# Altium footprint library SiLPA_HE.PcbLib: 129 footprints (part 6 of 9)
Each footprint in its own frame and in the unit in brackets; x right, y up, seen from the top. Pads: shape width x height; smd on the part's side, far side on the other; paste and mask are expansions set on the pad; w line width, h text height; cw(c..) or ccw(c..) is an arc to the next point about the centre after c.
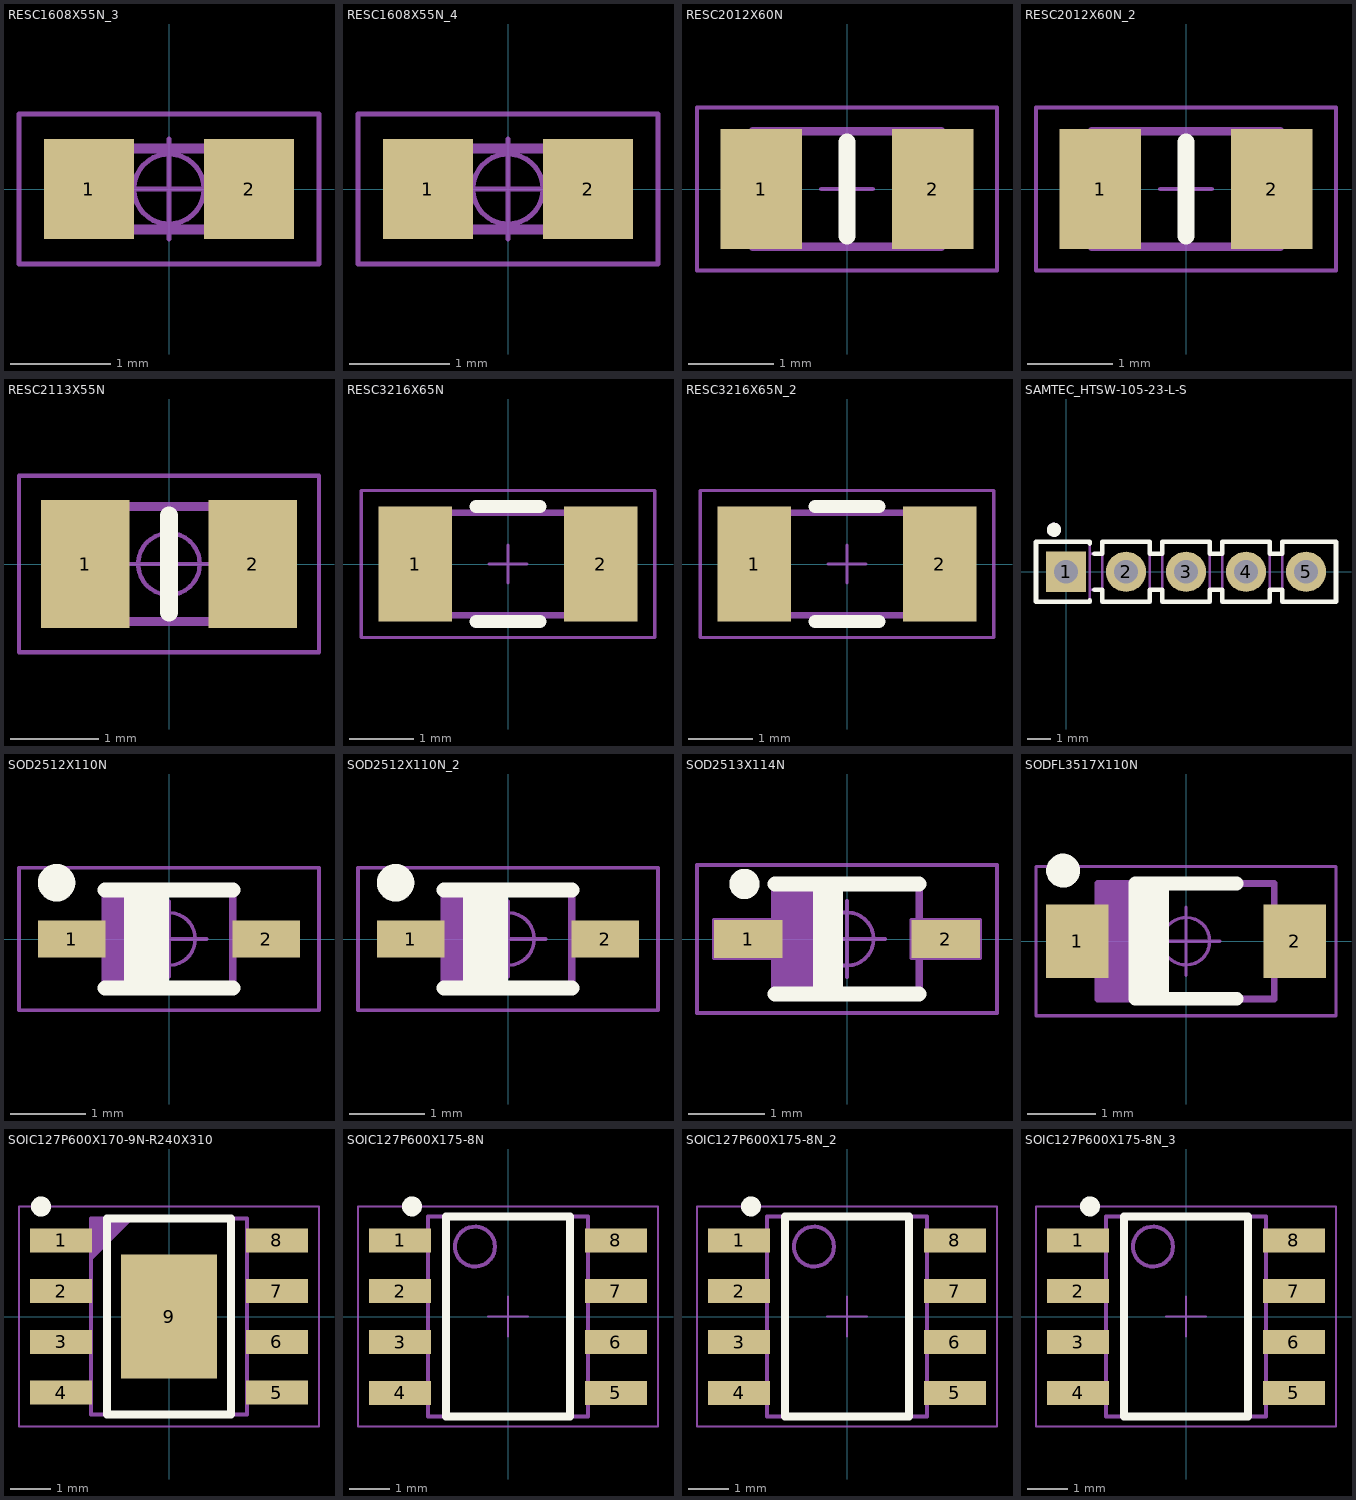
[diagram p5: the footprints below, top view; thin cyan lines are the x and y axes]

## RESC1608X55N_3 [mm]
pads (2):
  rect 0.9x1 smd: 1(-0.8,0) 2(0.8,0)
Mechanical 14:
  lines w0.1: -0.8,-0.405 0.8,-0.405 0.8,0.405 -0.8,0.405 -0.8,-0.405
Mechanical 15:
  circle w0.05: c0,0 r0.35
  lines w0.05: -0.5,0 0.5,0 ; 0,-0.5 0,0.5 ; -1.5,-0.75 -1.5,0.75 1.5,0.75 1.5,-0.75 -1.5,-0.75
3D body "RESC1608X55N.stp": height 0.55, standoff 0, extent -0.875,-0.475 0.875,0.475

## RESC1608X55N_4 [mm]
pads (2):
  rect 0.9x1 smd: 1(-0.8,0) 2(0.8,0)
Mechanical 14:
  lines w0.1: -0.8,-0.405 -0.8,0.405 0.8,0.405 0.8,-0.405 -0.8,-0.405
Mechanical 15:
  circle w0.05: c0,0 r0.35
  lines w0.05: -0.5,0 0.5,0 ; 0,-0.5 0,0.5 ; -1.5,-0.75 1.5,-0.75 1.5,0.75 -1.5,0.75 -1.5,-0.75
3D body "RESC1608X55N.stp": height 0.55, standoff 0, extent -0.875,-0.475 0.875,0.475

## RESC2012X60N [mm] "Chip Resistor, EIA 0805, Metric 2012, Body 2.0x1.2mm, IPC Medium Density"
height 0.6
pads (2):
  rect 0.95x1.4 smd: 1(-1,0) 2(1,0)
Top Overlay:
  lines w0.2: 0,-0.55 0,0.55
Mechanical 14:
  lines w0.1: -1.1,0.675 -1.1,-0.675 1.1,-0.675 1.1,0.675 ; -1.1,0.675 1.1,0.675
Mechanical 15:
  lines w0.05: -0.3,0 0.3,0 ; 0,-0.3 0,0.3 ; -1.75,-0.95 1.75,-0.95 1.75,0.95 -1.75,0.95 -1.75,-0.95
3D body "RESC2012X60N.stp": height 0.6, standoff 0, extent -1.1,-0.675 1.1,0.675

## RESC2012X60N_2 [mm]
pads (2):
  rect 0.95x1.4 smd: 1(-1,0) 2(1,0)
Top Overlay:
  lines w0.2: 0,-0.55 0,0.55
Mechanical 14:
  lines w0.1: -1.1,0.675 -1.1,-0.675 1.1,-0.675 1.1,0.675 ; -1.1,0.675 1.1,0.675
Mechanical 15:
  lines w0.05: -0.3,0 0.3,0 ; 0,-0.3 0,0.3 ; -1.75,-0.95 1.75,-0.95 1.75,0.95 -1.75,0.95 -1.75,-0.95
3D body "RESC2012X60N.stp": height 0.6, standoff 0, extent -1.1,-0.675 1.1,0.675

## RESC2113X55N [mm] "Chip Resistor, EIA 0805, Metric 2113, Body 2.05x1.3mm, IPC Medium Density"
height 0.55
pads (2):
  rect 1x1.45 smd: 1(-0.95,0) 2(0.95,0)
Top Overlay:
  lines w0.2: 0,-0.55 0,0.55
Mechanical 14:
  lines w0.1: -1.025,-0.65 -1.025,0.65 1.025,0.65 1.025,-0.65 -1.025,-0.65
Mechanical 15:
  circle w0.05: c0,0 r0.35
  lines w0.05: -0.5,0 0.5,0 ; 0,-0.5 0,0.5 ; -1.7,-1 -1.7,1 1.7,1 1.7,-1 -1.7,-1
3D body "RESC2113X55N.stp": height 0.55, standoff 0, extent -1,-0.625 1,0.625

## RESC3216X65N [mm] "Chip Resistor, EIA 1206, Metric 3216, Body 3.2x1.6mm, IPC Medium Density"
height 0.65
pads (2):
  rect 1.15x1.8 smd: 1(-1.45,0) 2(1.45,0)
Top Overlay:
  lines w0.2: -0.5,-0.9 0.5,-0.9 ; -0.5,0.9 0.5,0.9
Mechanical 14:
  lines w0.1: -1.6,-0.8 1.6,-0.8 1.6,0.8 -1.6,0.8 -1.6,-0.8
Mechanical 15:
  lines w0.05: -0.3,0 0.3,0 ; 0,-0.3 0,0.3 ; -2.3,-1.15 2.3,-1.15 2.3,1.15 -2.3,1.15 -2.3,-1.15
3D body "RESC3216X65N.stp": height 0.65, standoff 0, extent -1.675,-0.875 1.675,0.875

## RESC3216X65N_2 [mm]
pads (2):
  rect 1.15x1.8 smd: 1(-1.45,0) 2(1.45,0)
Top Overlay:
  lines w0.2: -0.5,-0.9 0.5,-0.9 ; -0.5,0.9 0.5,0.9
Mechanical 14:
  lines w0.1: -1.6,-0.8 1.6,-0.8 1.6,0.8 -1.6,0.8 -1.6,-0.8
Mechanical 15:
  lines w0.05: -0.3,0 0.3,0 ; 0,-0.3 0,0.3 ; -2.3,-1.15 2.3,-1.15 2.3,1.15 -2.3,1.15 -2.3,-1.15
3D body "RESC3216X65N.stp": height 0.65, standoff 0, extent -1.675,-0.875 1.675,0.875

## SAMTEC_HTSW-105-23-L-S [mm] "5 Contacts - Pitch 2.54mm - Single Row  Through Mount Straigh Header (Post Lead 5.84mm, Tail Lead 2.92mm, Insulator 2.54mm)"
height 8.38
pads (5):
  rect 1.7x1.7 hole 1: 1(0,0)
  round 1.7 hole 1: 2(2.54,0) 3(5.08,0) 4(7.62,0) 5(10.16,0)
Top Overlay:
  circle w0.3: c-0.508,1.778 r0.15
  lines w0.2: 1.007,-1.2 1.007,-1.27 ; 1.007,1.2 1.007,1.27 ; 1.2,-0.762 1.533,-0.762 1.533,-1.27 3.547,-1.27 3.547,-0.762 4.073,-0.762 4.073,-1.27 6.087,-1.27 6.087,-0.762 6.613,-0.762 6.613,-1.27 8.627,-1.27 8.627,-0.762 ; 1.2,0.762 1.533,0.762 1.533,1.27 3.547,1.27 3.547,0.762 4.073,0.762 4.073,1.27 6.087,1.27 6.087,0.762 6.613,0.762 6.613,1.27 8.627,1.27 8.627,0.762 ; -1.27,-1.27 1.007,-1.27 ; -1.27,-1.27 -1.27,1.27 ; -1.27,-1.27 -1.27,1.27 ; -1.27,-1.27 1.007,-1.27 ; -1.27,1.27 1.007,1.27 ; -1.27,1.27 1.007,1.27 ; 8.627,-0.762 9.153,-0.762 ; 8.627,-0.762 9.153,-0.762 ; 8.627,0.762 9.153,0.762 ; 8.627,0.762 9.153,0.762 ; 9.153,-0.762 9.153,-1.27 11.43,-1.27 11.43,1.27 9.153,1.27 9.153,0.762
Mechanical 8:
  lines w0.1: -0.5,0 0,0 ; 0,-0.5 0,0 ; 0,0.5 0,0 ; 0.5,0 0,0 ; 2.04,0 2.54,0 ; 2.54,-0.5 2.54,0 ; 2.54,0.5 2.54,0 ; 3.04,0 2.54,0 ; 4.58,0 5.08,0 ; 5.08,-0.5 5.08,0 ; 5.08,0.5 5.08,0 ; 5.58,0 5.08,0 ; 7.12,0 7.62,0 ; 7.62,-0.5 7.62,0 ; 7.62,0.5 7.62,0 ; 8.12,0 7.62,0 ; 9.66,0 10.16,0 ; 10.16,-0.5 10.16,0 ; 10.16,0.5 10.16,0 ; 10.66,0 10.16,0
Mechanical 14:
  circle w0.3: c-0.508,1.778 r0.15
  lines w0.1: 1.007,-0.762 1.533,-0.762 ; 1.007,0.762 1.533,0.762 ; 3.547,-0.762 4.073,-0.762 ; 3.547,0.762 4.073,0.762 ; 6.087,-0.762 6.613,-0.762 ; 6.087,0.762 6.613,0.762 ; -1.27,-1.27 -1.27,1.27 1.007,1.27 1.007,-1.27 -1.27,-1.27 ; -0.317,-0.318 -0.318,0.317 0.317,0.317 0.318,-0.317 -0.317,-0.318 ; 1.533,-1.27 3.547,-1.27 3.547,1.27 1.533,1.27 1.533,-1.27 ; 2.223,-0.318 2.222,0.317 2.857,0.317 2.857,-0.317 2.223,-0.318 ; 4.073,-1.27 4.073,1.27 6.087,1.27 6.087,-1.27 4.073,-1.27 ; 4.763,-0.318 4.763,0.317 5.397,0.317 5.397,-0.317 4.763,-0.318 ; 6.613,-1.27 6.613,1.27 8.627,1.27 8.627,-1.27 6.613,-1.27 ; 7.303,-0.318 7.302,0.317 7.937,0.317 7.938,-0.317 7.303,-0.318 ; 8.627,-0.762 9.153,-0.762 8.627,-0.762 ; 8.627,0.762 9.153,0.762 8.627,0.762 ; 9.153,-1.27 9.153,1.27 11.43,1.27 11.43,-1.27 9.153,-1.27 ; 9.843,-0.318 9.843,0.317 10.478,0.317 10.478,-0.318 9.843,-0.318
3D body "SAMTEC_HTSW-105-23-L-S.stp": height 8.38, standoff -2.92, extent -1.27,-1.27 11.43,1.27

## SOD2512X110N [mm]
height 8.8
pads (2):
  rect 0.9x0.5 smd: 1(-1.3,0) 2(1.3,0)
Top Overlay:
  circle w0.25: c-1.5,0.75 r0.125
  lines w0.2: -0.85,-0.65 0.85,-0.65 ; -0.85,0.65 0.85,0.65 ; -0.5,-0.65 -0.5,0.65 ; -0.3,-0.65 -0.3,0.65 ; -0.1,-0.65 -0.1,0.65
Mechanical 14:
  lines w0.1: -0.75,-0.625 -0.75,0.625 ; -0.65,-0.625 -0.65,0.625 ; -0.55,-0.625 -0.55,0.625 ; -0.45,-0.625 -0.45,0.625 ; -0.35,-0.625 -0.35,0.625 ; -0.25,-0.625 -0.25,0.625 ; -0.15,-0.625 -0.15,0.625 ; -0.85,-0.625 0.85,-0.625 0.85,0.625 -0.85,0.625 ; -0.85,-0.625 -0.85,0.625 ; -0.85,-0.625 -0.85,0.625
Mechanical 15:
  circle w0.05: c0,0 r0.35
  lines w0.05: -0.5,0 0.5,0 ; 0,-0.5 0,0.5 ; -2,-0.95 2,-0.95 2,0.95 -2,0.95 -2,-0.95
3D body "SOD2512X110N(SOD-323).stp": height 1.1, standoff 0, extent -1.35,-0.675 1.35,0.675

## SOD2512X110N_2 [mm]
pads (2):
  rect 0.9x0.5 smd: 1(-1.3,0) 2(1.3,0)
Top Overlay:
  circle w0.25: c-1.5,0.75 r0.125
  lines w0.2: -0.85,-0.65 0.85,-0.65 ; -0.85,0.65 0.85,0.65 ; -0.5,-0.65 -0.5,0.65 ; -0.3,-0.65 -0.3,0.65 ; -0.1,-0.65 -0.1,0.65
Mechanical 14:
  lines w0.1: -0.75,-0.625 -0.75,0.625 ; -0.65,-0.625 -0.65,0.625 ; -0.55,-0.625 -0.55,0.625 ; -0.45,-0.625 -0.45,0.625 ; -0.35,-0.625 -0.35,0.625 ; -0.25,-0.625 -0.25,0.625 ; -0.15,-0.625 -0.15,0.625 ; -0.85,-0.625 0.85,-0.625 0.85,0.625 -0.85,0.625 ; -0.85,-0.625 -0.85,0.625 ; -0.85,-0.625 -0.85,0.625
Mechanical 15:
  circle w0.05: c0,0 r0.35
  lines w0.05: -0.5,0 0.5,0 ; 0,-0.5 0,0.5 ; -2,-0.95 2,-0.95 2,0.95 -2,0.95 -2,-0.95
3D body "SOD2512X110N(SOD-323).stp": height 1.1, standoff 0, extent -1.35,-0.675 1.35,0.675

## SOD2513X114N [mm] "SOD-323 Diode; 1.75mm W X 1.30mm L X 1.14mm H Body, IPC Medium Density"
height 1.14
pads (2):
  rect 0.9x0.5 smd: 1(-1.3,0) 2(1.3,0)
Top Overlay:
  circle w0.2: c-1.35,0.725 r0.1
  lines w0.2: -0.95,-0.725 0.95,-0.725 ; -0.95,0.725 0.95,0.725 ; -0.35,-0.725 -0.35,0.725 ; -0.15,-0.725 -0.15,0.725
Mechanical 8:
  lines w0.05: -0.5,0 0,0 ; 0,-0.5 0,0 ; 0,0.5 0,0 ; 0.5,0 0,0 ; -1.75,-0.25 -0.85,-0.25 -0.85,0.25 -1.75,0.25 ; -1.75,-0.25 -1.75,0.25 ; -1.75,-0.25 -1.3,0 -1.75,0.25 ; 1.75,-0.25 0.85,-0.25 0.85,0.25 1.75,0.25 ; 1.75,-0.25 1.75,0.25 ; 1.75,-0.25 1.3,0 1.75,0.25
Mechanical 14:
  lines w0.1: -0.85,-0.725 -0.85,0.725 ; -0.75,-0.725 -0.75,0.725 ; -0.65,-0.725 -0.65,0.725 ; -0.55,-0.725 -0.55,0.725 ; -0.45,-0.725 -0.45,0.725 ; -0.35,-0.725 -0.35,0.725 ; -0.25,-0.725 -0.25,0.725 ; -0.15,-0.725 -0.15,0.725 ; -0.95,-0.725 -0.95,0.725 0.95,0.725 0.95,-0.725 -0.95,-0.725
Mechanical 15:
  circle w0.05: c0,0 r0.35
  lines w0.05: -0.5,0 0.5,0 ; 0,-0.5 0,0.5 ; -1.975,-0.975 1.975,-0.975 1.975,0.975 -1.975,0.975 -1.975,-0.975
3D body "SOD2513X114N.stp": height 1.15, standoff 0, extent -1.4,-0.725 1.4,0.725

## SODFL3517X110N [mm] "SODFL Diode (SOD123W); 2.60mm W X 1.70mm L X 1.10mm H body, IPC Medium Density"
height 1.1
pads (2):
  rect 0.92x1.08 smd: 1(-1.6,0) 2(1.6,0)
Top Overlay:
  circle w0.25: c-1.81,1.04 r0.125
  lines w0.2: -0.55,-0.85 -0.55,0.85 ; -0.35,-0.85 -0.35,0.85 ; 0.75,-0.85 -0.75,-0.85 -0.75,0.85 0.75,0.85
Mechanical 14:
  lines w0.1: -1.2,-0.85 -1.2,0.85 ; -1.1,-0.85 -1.1,0.85 ; -1,-0.85 -1,0.85 ; -0.9,-0.85 -0.9,0.85 ; -0.8,-0.85 -0.8,0.85 ; -0.7,-0.85 -0.7,0.85 ; -0.6,-0.85 -0.6,0.85 ; -0.5,-0.85 -0.5,0.85 ; -1.3,-0.85 -1.3,0.85 1.3,0.85 1.3,-0.85 -1.3,-0.85
Mechanical 15:
  circle w0.05: c0,0 r0.35
  lines w0.05: -0.5,0 0.5,0 ; 0,-0.5 0,0.5 ; -2.21,-1.1 -2.21,1.1 2.21,1.1 2.21,-1.1 -2.21,-1.1
3D body "SODFL3517X110N.stp": height 1.1, standoff 0, extent -1.85,-0.95 1.85,0.95

## SOIC127P600X170-9N-R240X310 [mm] "SOIC, 1.27mm Pitch, 8 Pin, 3.90mm W X 4.90mm L X 1.70mm H body (w/Thermal Tab 2.40 X 3.10mm), IPC Medium Density"
height 1.7
pads (9):
  rect 1.55x0.6 smd: 1(-2.7,1.905) 2(-2.7,0.635) 3(-2.7,-0.635) 4(-2.7,-1.905) 5(2.7,-1.905) 6(2.7,-0.635) 7(2.7,0.635) 8(2.7,1.905)
  rect 2.4x3.1 smd: 9(0,0)
Top Overlay:
  circle w0.25: c-3.2,2.75 r0.125
  lines w0.2: -1.55,-2.45 1.55,-2.45 1.55,2.45 -1.55,2.45 -1.55,-2.45
Mechanical 14:
  lines w0.1: -1.95,1.45 -0.95,2.45 ; -1.95,1.55 -1.05,2.45 ; -1.95,1.65 -1.15,2.45 ; -1.95,1.75 -1.25,2.45 ; -1.95,1.85 -1.35,2.45 ; -1.95,1.95 -1.45,2.45 ; -1.95,2.05 -1.55,2.45 ; -1.95,2.15 -1.65,2.45 ; -1.95,2.25 -1.75,2.45 ; -1.95,2.35 -1.85,2.45 ; -1.95,-2.45 1.95,-2.45 1.95,2.45 -1.95,2.45 -1.95,-2.45
Mechanical 15:
  circle w0.05: c0,0 r0.35
  lines w0.05: -0.5,0 0.5,0 ; 0,-0.5 0,0.5 ; -3.75,-2.75 3.75,-2.75 3.75,2.75 -3.75,2.75 -3.75,-2.75
3D body "SOIC127P600X170-9N-R240X310.stp": height 1.75, standoff 0, extent -3.1,-2.5 3.1,2.5

## SOIC127P600X175-8N [mm]
height 8.8
pads (8):
  rect 1.55x0.6 smd: 1(-2.7,1.905) 2(-2.7,0.635) 3(-2.7,-0.635) 4(-2.7,-1.905) 5(2.7,-1.905) 6(2.7,-0.635) 7(2.7,0.635) 8(2.7,1.905)
Top Overlay:
  circle w0.25: c-2.4,2.755 r0.125
  lines w0.2: -1.55,-2.5 -1.55,2.5 1.55,2.5 1.55,-2.5 -1.55,-2.5
Mechanical 14:
  circle w0.1: c-0.825,1.75 r0.5
  lines w0.1: -2,-2.5 -2,2.5 2,2.5 2,-2.5 -2,-2.5
Mechanical 15:
  lines w0.05: -0.5,0 0.5,0 ; 0,-0.5 0,0.5 ; -3.75,-2.75 -3.75,2.75 3.75,2.75 3.75,-2.75 -3.75,-2.75
3D body "SOIC127P600X175-8N.stp": height 1.75, standoff 0, extent -3.1,-2.5 3.1,2.5

## SOIC127P600X175-8N_2 [mm]
pads (8):
  rect 1.55x0.6 smd: 1(-2.7,1.905) 2(-2.7,0.635) 3(-2.7,-0.635) 4(-2.7,-1.905) 5(2.7,-1.905) 6(2.7,-0.635) 7(2.7,0.635) 8(2.7,1.905)
Top Overlay:
  circle w0.25: c-2.4,2.755 r0.125
  lines w0.2: -1.55,-2.5 1.55,-2.5 1.55,2.5 -1.55,2.5 -1.55,-2.5
Mechanical 14:
  circle w0.1: c-0.825,1.75 r0.5
  lines w0.1: -2,-2.5 2,-2.5 2,2.5 -2,2.5 -2,-2.5
Mechanical 15:
  lines w0.05: -0.5,0 0.5,0 ; 0,-0.5 0,0.5 ; -3.75,-2.75 3.75,-2.75 3.75,2.75 -3.75,2.75 -3.75,-2.75
3D body "SOIC127P600X175-8N.stp": height 1.75, standoff 0, extent -3.1,-2.5 3.1,2.5

## SOIC127P600X175-8N_3 [mm]
pads (8):
  rect 1.55x0.6 smd: 1(-2.7,1.905) 2(-2.7,0.635) 3(-2.7,-0.635) 4(-2.7,-1.905) 5(2.7,-1.905) 6(2.7,-0.635) 7(2.7,0.635) 8(2.7,1.905)
Top Overlay:
  circle w0.25: c-2.4,2.755 r0.125
  lines w0.2: -1.55,-2.5 1.55,-2.5 1.55,2.5 -1.55,2.5 -1.55,-2.5
Mechanical 14:
  circle w0.1: c-0.825,1.75 r0.5
  lines w0.1: -2,-2.5 2,-2.5 2,2.5 -2,2.5 -2,-2.5
Mechanical 15:
  lines w0.05: -0.5,0 0.5,0 ; 0,-0.5 0,0.5 ; -3.75,-2.75 3.75,-2.75 3.75,2.75 -3.75,2.75 -3.75,-2.75
3D body "SOIC127P600X175-8N.stp": height 1.75, standoff 0, extent -3.1,-2.5 3.1,2.5